# Altium schematic symbol library UCAr.SCHLIB: 15 symbols
Pins are listed as number, name and electrical type; pins without a type are passive.

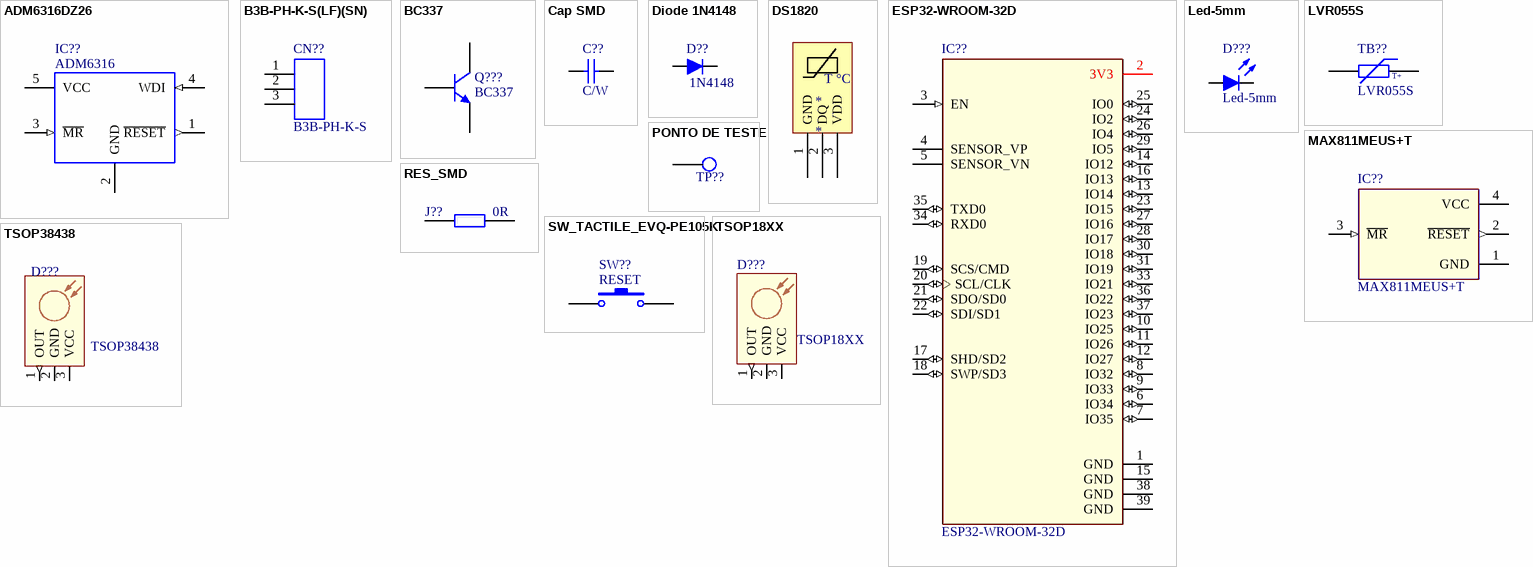
[diagram p0: symbols ADM6316DZ26 to TSOP38438]

## ADM6316DZ26
designator IC??, comment ADM6316
Supervisory Circuits with Watchdog and Manual Reset in 5-Lead SOT-23; MPN: ADM6316DZ26; Fabricante: ANALOG DEVICE; Value: ADM6316DZ26; Footprint: SOT-23-5
footprint SOT23-5 (SOT23, 5-Leads, Body 2,90x2,80mm, Pitch 0,95mm, IPC Medium Density)
pins: 1 ~{RESET} (out), 2 GND (power), 3 ~{MR} (in), 4 WDI (in), 5 VCC (power)

## B3B-PH-K-S(LF)(SN)
designator CN??, comment B3B-PH-K-S
PH Series 3 Position 2 mm Pitch Through Hole Top Entry Shrouded Header; Fabricante: JST Sales; MPN: B3B-PH-K-S; Footprint: None; Value: B3B-PH-K-S; Supplier 1: Digi-Key; Supplier Part Number 1: 455-1705-ND
footprint JST_B3B-PH-K-S(LF)(SN)
pins: 1, 2, 3

## BC337
designator Q???
NPN General-purpose Transistor
footprint TO92_BC337 (TO, Flat Index; 3 In-Line, Axial Leads; Body Dia. 4.8mm; Leads 0.48 x 0.5 mm (max))
pins: 1 E, 2 B, 3 C

## Cap SMD
designator C??, comment C/W
Capacitor SMD; Fabricante: *; MPN: *; Footprint: smd; value: C/W
simulation model CAP (Semiconductor Capacitor)
signal-integrity model Cap Semi
footprint CSMD-0805 (Chip Resistor; Body 2.0 x 1.3 mm (LxW typ))
footprint CSMD-0603 (Chip Capacitor; Body 1.6 x 0.8 mm (LxW typ))
footprint CSMD-1206 (Chip Capacitor, 2-Leads, Body 3,20x2,40mm, IPC Medium Density)
footprint CSMD-0201 (Chip Capacitor, 2-Leads, Body 0,60x0,30mm, IPC Medium Density)
footprint CSMD-0402 (Chip Capacitor, 2-Leads, Body 1,00x0,50mm, IPC Medium Density)
pins: 1, 2

## Diode 1N4148
designator D??, comment 1N4148
High Conductance Fast Diode; Fabricante: *; Footprint: *; value: *; MPN: *
footprint SOD-123FL (SODFL, 2-Leads, Body 1,65x3,60mm, IPC Medium Density)
footprint SOD80 (MINIMELF) (MELF Diode, 2-Leads, Body 3,50x1,50mm, IPC Medium Density)
pins: 1 K, 2 A

## DS1820
designator *
pins: 1 GND, 2 DQ, 3 VDD
text: T °C

## ESP32-WROOM-32D
designator IC??
IC: SoC; GPIO, I2C, I2S, IR, SD, SDIO, SPI, UART; 2.7Ã·3.6VDC; 20dBm; Fabricante: Espressif Systems; Footprint: Module Espressif Systems; MPN: ESP32-WROOM-32D; Digi-Key_Part_Number: 1904-1023-1-ND; Value: ESP32-WROOM-32D; ComponentLink1Description: datasheet; ComponentLink1URL: https://www.espressif.com/sites/default/files/documentation/esp32-wroom-32d_esp32-wroom-32u_datasheet_en.pdf
footprint MODULE_ESP32-WROOM-32D (MODULO SMD 38 PIN, COM TERMAL PAD, 25mmX18mm)
pins: 1 GND (power), 2 3V3 (power), 3 EN (in), 4 SENSOR_VP, 5 SENSOR_VN, 6 IO34 (io), 7 IO35 (io), 8 IO32 (io), 9 IO33 (io), 10 IO25 (io), 11 IO26 (io), 12 IO27 (io), 13 IO14 (io), 14 IO12 (io), 15 GND (power), 16 IO13 (io), 17 SHD/SD2 (io), 18 SWP/SD3 (io), 19 SCS/CMD (io), 20 SCL/CLK (io), 21 SDO/SD0 (io), 22 SDI/SD1 (io), 23 IO15 (io), 24 IO2 (io), 25 IO0 (io), 26 IO4 (io), 27 IO16 (io), 28 IO17 (io), 29 IO5 (io), 30 IO18 (io), 31 IO19 (io), 33 IO21 (io), 34 RXD0 (io), 35 TXD0 (io), 36 IO22 (io), 37 IO23 (io), 38 GND (power), 39 GND (power)

## Led-5mm
designator D???
Led 5mm, Body 3.2 x 1.8 mm (LxDia)
footprint LED-5mm (Typical RED GaAs LED; 2 Leads)
pins: 1 A, 2 K

## LVR055S
designator TB??
PTC Resettable Fuse 0.55A(hold) 1.25A(trip) 240V 1A 3.4W 26s 0.45Ohm Radial 14 X 4.1 X 21.7mm; Fabricante: Littelfuse; Value: 0.55A; MPN: LVR055S; Footprint: PTH RADIAL 2 PIN; ComponentLink1Description: datasheet; ComponentLink1URL: https://www.littelfuse.com/~/media/electronics/product_specifications/resettable_ptcs/littelfuse_ptc_lvr055s_product_specification.pdf.pdf; ComponentLink2Description: loja; ComponentLink2URL: https://www.digikey.com/product-detail/en/littelfuse-inc/LVR055S/LVR055S-ND/1113509
footprint LVR055S_PTH (Radial 14 X 4.1 X 21.7mm)
pins: 1, 2
text: T+

## MAX811MEUS+T
designator IC??
MAX811 Series 4.3 to 4.46 V 560 ms Push Pull Microprocessor Supervisor - SOT-143; Fabricante: Maxim Integrated; MPN: MAX811MEUS+T; Footprint: SOT-143; Value: MAX811
footprint SOT143-4P
pins: 1 GND (power), 2 ~{RESET} (out), 3 ~{MR} (in), 4 VCC (power)

## PONTO DE TESTE
designator TP??, comment VALUE  (value not drawn)
PONTO DE TESTE; PART NUMBER: PARTNUMBER; VALUE: VALUE
footprint TP_0.6_TH (PONTO DE TESTE DE 0.6mm)
footprint TP_0.8_TH (PONTO DE TESTE DE 0.8mm)
footprint TP_1.0_TH (PONTO DE TESTE DE 1.0mm)
pins: 1

## RES_SMD
designator J??, comment 0R
RES SMD; MPN: *; Footprint: *; Fabricante: *; value: 0R
footprint SMD-0805 (Chip Resistor; Body 2 x 1.3 mm (LxW typ))
footprint SMD-0603 (Chip Resistor; Body 1.6 x 0.8 mm (LxW typ))
footprint SMD-0402 (Chip Resistor; Body 1 x 0.5 mm (LxW typ))
footprint SMD-1206 (Chip Resistor, 2-Leads, Body 3,15x1,55mm, IPC Medium Density)
footprint SMD-1210 (Chip Resistor, 2-Leads, Body 3,15x2,50mm, IPC Medium Density)
footprint SMD-2010 (Chip Resistor, 2-Leads, Body 5,00x2,50mm, IPC Medium Density)
footprint SMD-2512 (Chip Resistor, 2-Leads, Body 6,30x3,20mm, IPC Medium Density)
footprint CMA0204-MINIMELF (MELF Resistor, 2-Leads, Body 3,60x1,40mm, IPC Medium Density)
pins: 1, 2

## SW_TACTILE_EVQ-PE105K
designator SW??, comment RESET
SW TACTILE SMD 2 PIN SPST-NO 0.05A 12V; MPN: EVQ-PE105K; Fabricante: PANASONIC; Footprint: 6.0 mm×3.5 mm SMD; Value: RESET; ComponentLink1Description: DATASHEET; ComponentLink1URL: https://www3.panasonic.biz/ac/e_download/control/switch/light-touch/catalog/sw_lt_eng_6035s.pdf; ComponentLink2Description: LOJA; ComponentLink2URL: https://www.digikey.com/product-detail/en/panasonic-electronic-components/EVQ-PE105K/P13594SCT-ND/1245515
footprint EVQ-PE105K_SMD (6.0 mm×3.5 mm SMD 2 PIN)
pins: 1, 2

## TSOP18XX
designator D???
Photo Modules for PCM Remote Control Systems
footprint TSOP1838 (Typical RED GaAs LED; 2 Leads)
pins: 1 OUT (out), 2 GND (power), 3 VCC (power)

## TSOP38438
designator D???
IR receiver module for infrared remote control systems; ComponentLink1Description: DATASHEET; ComponentLink1URL: https://www.vishay.com/docs/82491/tsop382.pdf; ComponentLink2Description: LOJA; ComponentLink2URL: https://www.digikey.com/product-detail/en/vishay-semiconductor-opto-division/TSOP38438/TSOP38438-ND/4073478
footprint TSOP1838 (Typical RED GaAs LED; 2 Leads)
pins: 1 OUT (out), 2 GND (power), 3 VCC (power)